# Altium schematic symbol library Micrel.SchLib: 1 symbol
Pins are listed as number, name and electrical type; pins without a type are passive.

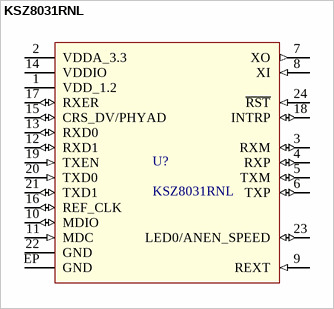
[diagram p0: symbol KSZ8031RNL]

## KSZ8031RNL
designator U?
10Base-T/100Base-TX PHY with RMII Support
pins: 1 VDD_1.2 (power), 2 VDDA_3.3 (power), 3 RXM (io), 4 RXP (io), 5 TXM (io), 6 TXP (io), 7 XO (out), 8 XI (in), 9 REXT (in), 10 MDIO (io), 11 MDC (in), 12 RXD1 (io), 13 RXD0 (io), 14 VDDIO (power), 15 CRS_DV/PHYAD (io), 16 REF_CLK (io), 17 RXER (io), 18 INTRP (io), 19 TXEN (in), 20 TXD0 (in), 21 TXD1 (io), 22 GND (power), 23 LED0/ANEN_SPEED (io), 24 ~{RST} (in), EP GND